# EAGLE library part MAX1771 (library max1771)
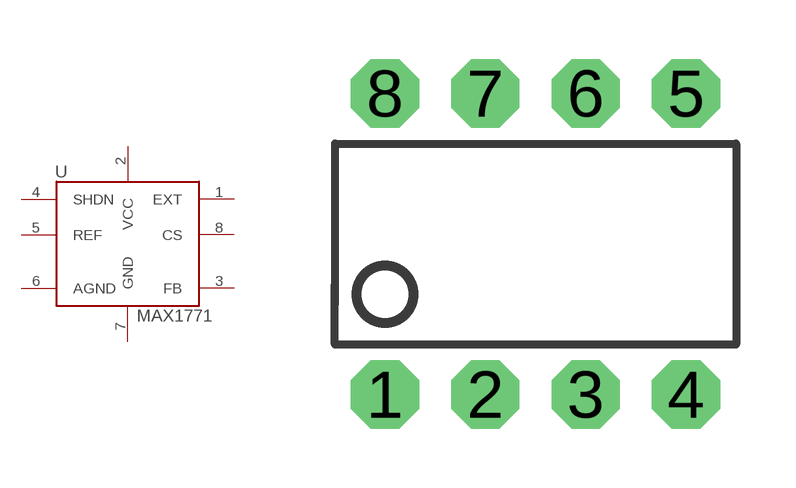
[diagram p0: symbol with the pads of DIP-08; footprint DIP-08]

Designator prefix -

## MAX1771  [DIP-08]
1  EXT  out
2  VCC  in
3  FB  in
4  SHDN  in
5  REF  in
6  AGND  in
7  GND  in
8  CS  in

## Footprint DIP-08 (pad centres in mm)
drill 0.813 pad 1.727 octagon: 1 -3.81,-3.81; 2 -1.27,-3.81; 3 1.27,-3.81; 4 3.81,-3.81; 5 3.81,3.81; 6 1.27,3.81; 7 -1.27,3.81; 8 -3.81,3.81